# EAGLE library part H6062FNLT (library H6062FNLT)
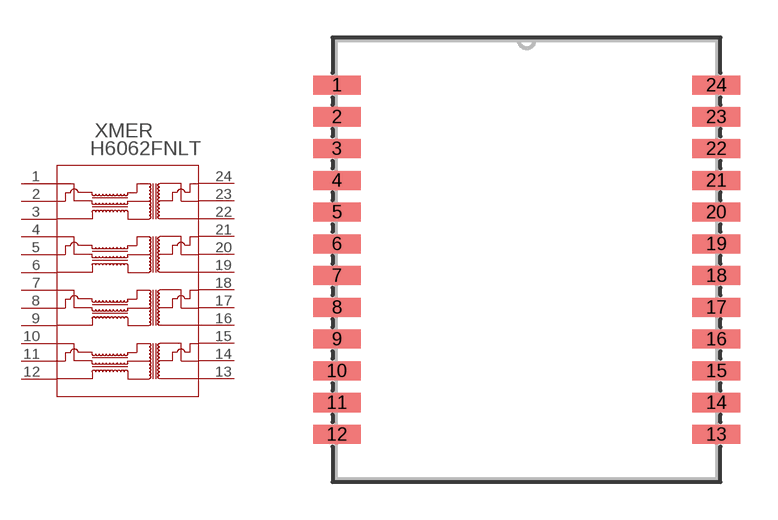
[diagram p0: symbol with the pads of H6062FNLT_PUL; footprint H6062FNLT_PUL]

Designator prefix XMER

## H6062FNLT (COPYRIGHT: Copyright (C) 2021 Ultra Librarian. All rights reserved.; MANUFACTURER_PART_NUMBER: H6062FNLT; MFR_NAME: Pulse Electronics Corporation)  [H6062FNLT_PUL]
1  1  pas
2  2  pas
3  3  pas
4  4  pas
5  5  pas
6  6  pas
7  7  pas
8  8  pas
9  9  pas
10  10  pas
11  11  pas
12  12  pas
13  13  pas
14  14  pas
15  15  pas
16  16  pas
17  17  pas
18  18  pas
19  19  pas
20  20  pas
21  21  pas
22  22  pas
23  23  pas
24  24  pas

## Footprint H6062FNLT_PUL (pad centres in mm)
smd 1.905 x 0.762: 1 -7.582,6.985; 2 -7.582,5.715; 3 -7.582,4.445; 4 -7.582,3.175; 5 -7.582,1.905; 6 -7.582,0.635; 7 -7.582,-0.635; 8 -7.582,-1.905; 9 -7.582,-3.175; 10 -7.582,-4.445; 11 -7.582,-5.715; 12 -7.582,-6.985; 13 7.582,-6.985; 14 7.582,-5.715; 15 7.582,-4.445; 16 7.582,-3.175; 17 7.582,-1.905; 18 7.582,-0.635; 19 7.582,0.635; 20 7.582,1.905; 21 7.582,3.175; 22 7.582,4.445; 23 7.582,5.715; 24 7.582,6.985